# Altium footprint library czc.PcbLib: 157 footprints (part 7 of 10)
Each footprint in its own frame and in the unit in brackets; x right, y up, seen from the top. Pads: shape width x height; smd on the part's side, far side on the other; paste and mask are expansions set on the pad; w line width, h text height; cw(c..) or ccw(c..) is an arc to the next point about the centre after c.
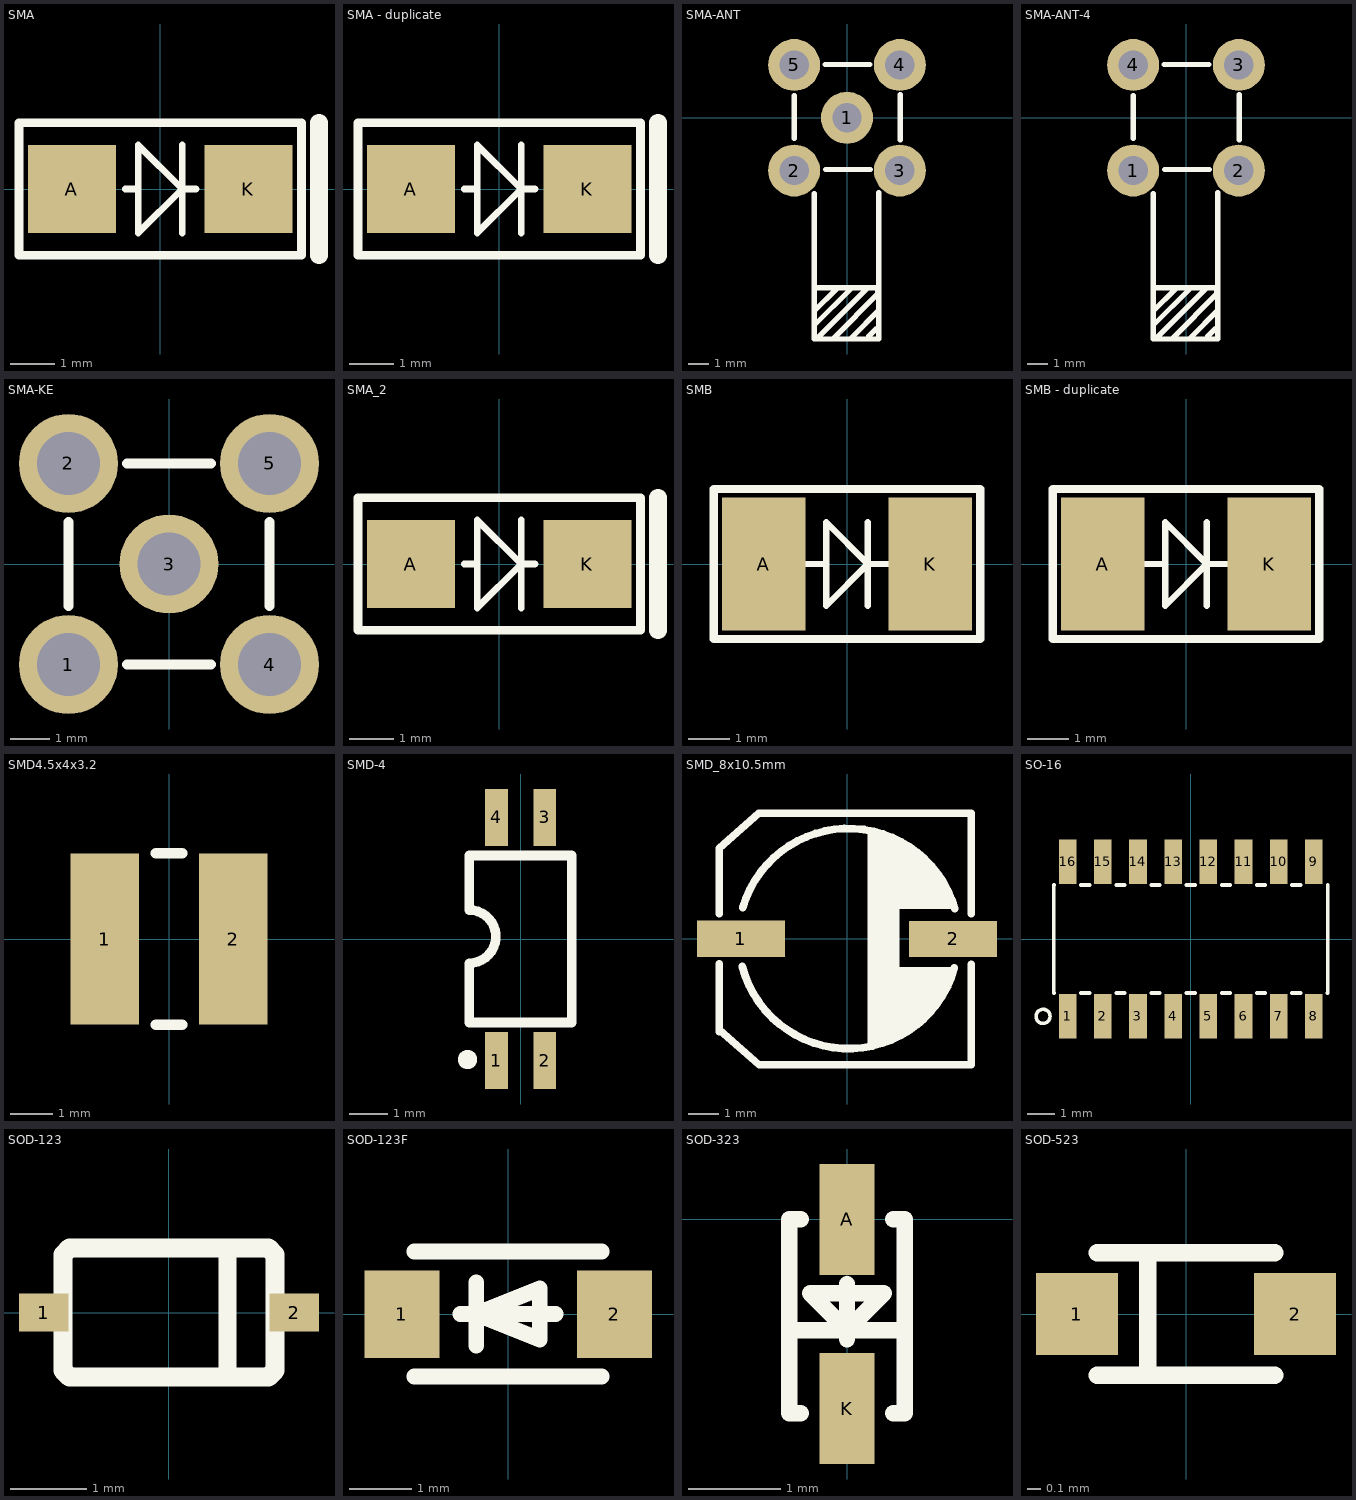
[diagram p6: the footprints below, top view; thin cyan lines are the x and y axes]

## SMA [mm]
pads (2):
  rect 2x2 smd: A(-2,0) K(2,0)
Top Overlay:
  lines w0.15: -0.787,0 -0.5,0 ; 0.5,-1 0.5,1 ; 0.813,0 0.5,0 ; 0.5,0 -0.5,1 -0.5,-1 0.5,0
  lines w0.2: -3.2,-1.5 -3.2,1.5 3.2,1.5 3.2,-1.5 -3.2,-1.5
  lines w0.4: 3.6,-1.5 3.6,1.5

## SMA - duplicate [mm]
pads (2):
  rect 2x2 smd: A(-2,0) K(2,0)
Top Overlay:
  lines w0.15: -0.787,0 -0.5,0 ; 0.5,-1 0.5,1 ; 0.813,0 0.5,0 ; 0.5,0 -0.5,1 -0.5,-1 0.5,0
  lines w0.2: -3.2,-1.5 -3.2,1.5 3.2,1.5 3.2,-1.5 -3.2,-1.5
  lines w0.4: 3.6,-1.5 3.6,1.5

## SMA-ANT [mm]
pads (5):
  round 2.5 hole 1.4: 1(0,0) 2(-2.54,-2.54) 3(2.54,-2.54) 4(2.54,2.54) 5(-2.54,2.54)
Top Overlay:
  lines w0.254: -2.54,-0.991 -2.54,1.067 ; -1.575,-9.982 0.178,-8.23 ; -1.575,-3.658 -1.575,-10.643 1.524,-10.643 1.524,-3.607 ; -1.549,-9.271 -0.508,-8.23 -0.508,-8.204 ; -1.473,-8.179 1.448,-8.179 1.473,-8.204 1.473,-8.484 -0.61,-10.566 ; -1.346,-10.516 0.94,-8.23 ; -1.041,2.565 1.092,2.565 ; -1.016,-2.489 1.118,-2.489 ; -0.584,-8.255 -0.559,-8.255 ; 0.229,-10.566 1.524,-9.271 ; 1.041,-10.516 1.422,-10.135 1.499,-10.135 ; 2.565,-1.067 2.565,1.118

## SMA-ANT-4 [mm]
pads (4):
  round 2.5 hole 1.4: 1(-2.54,-2.54) 2(2.54,-2.54) 3(2.54,2.54) 4(-2.54,2.54)
Top Overlay:
  lines w0.254: -2.54,-0.991 -2.54,1.067 ; -1.575,-9.982 0.178,-8.23 ; -1.575,-3.658 -1.575,-10.643 1.524,-10.643 1.524,-3.607 ; -1.549,-9.271 -0.508,-8.23 -0.508,-8.204 ; -1.473,-8.179 1.448,-8.179 1.473,-8.204 1.473,-8.484 -0.61,-10.566 ; -1.346,-10.516 0.94,-8.23 ; -1.041,2.565 1.092,2.565 ; -1.016,-2.489 1.118,-2.489 ; -0.584,-8.255 -0.559,-8.255 ; 0.229,-10.566 1.524,-9.271 ; 1.041,-10.516 1.422,-10.135 1.499,-10.135 ; 2.565,-1.067 2.565,1.118

## SMA-KE [mm]
pads (5):
  round 2.5 hole 1.6: 1(-2.54,-2.54) 2(-2.54,2.54) 3(0,0) 4(2.54,-2.54) 5(2.54,2.54)
Top Overlay:
  lines w0.254: -2.54,-1.059 -2.54,1.059 ; -1.059,-2.54 1.059,-2.54 ; -1.059,2.54 1.059,2.54 ; 2.54,-1.059 2.54,1.059

## SMA_2 [mm]
pads (2):
  rect 2x2 smd: A(-2,0) K(2,0)
Top Overlay:
  lines w0.15: -0.787,0 -0.5,0 ; 0.5,-1 0.5,1 ; 0.813,0 0.5,0 ; 0.5,0 -0.5,-1 -0.5,1 0.5,0
  lines w0.2: -3.2,-1.5 3.2,-1.5 3.2,1.5 -3.2,1.5 -3.2,-1.5
  lines w0.4: 3.6,-1.5 3.6,1.5

## SMB [mm]
pads (2):
  rect 2x3.2 smd: A(-2,0) K(2,0)
Top Overlay:
  lines w0.15: -1,0 -0.5,0 ; 0.5,-1 0.5,1 ; 1,0 0.5,0 ; 0.5,0 -0.5,-1 -0.5,1 0.5,0
  lines w0.2: -3.2,-1.8 -3.2,1.8 3.2,1.8 3.2,-1.8 -3.2,-1.8
3D body "DO-214AA.STEP": height 2.5, standoff 0, extent -2.8,-1.995 2.8,1.905

## SMB - duplicate [mm]
pads (2):
  rect 2x3.2 smd: A(-2,0) K(2,0)
Top Overlay:
  lines w0.15: -1,0 -0.5,0 ; 0.5,-1 0.5,1 ; 1,0 0.5,0 ; 0.5,0 -0.5,-1 -0.5,1 0.5,0
  lines w0.2: -3.2,-1.8 -3.2,1.8 3.2,1.8 3.2,-1.8 -3.2,-1.8
3D body "DO-214AA.STEP": height 2.5, standoff 0, extent -2.8,-1.995 2.8,1.905

## SMD4.5x4x3.2 [mm]
pads (2):
  rect 1.6x4 smd: 1(-1.5,0) 2(1.5,0)
Top Overlay:
  lines w0.254: -0.3,-2 0.3,-2 ; -0.3,2 0.3,2

## SMD-4 [mm]
pads (4):
  rect 0.6x1.5 smd: 1(-0.635,-3.2) 2(0.635,-3.2) 3(0.635,3.2) 4(-0.635,3.2)
Top Overlay:
  circle w0.254: c-1.397,-3.175 r0.127
  lines w0.254: -1.35,-0.635 -1.35,-2.2 1.35,-2.2 1.35,2.2 -1.35,2.2 -1.35,0.762 cw(c-1.349,0.064) -1.349,-0.635

## SMD_8x10.5mm [mm]
pads (2):
  rect 2.901x1.199 smd: 1(-3.5,0.005) 2(3.5,-0.005)
Top Overlay:
  region: 0.686,3.607 0.686,-3.581 1.219,-3.378 1.6,-3.226 1.981,-3.048 2.311,-2.819 2.692,-2.489 2.921,-2.184 3.175,-1.854 3.277,-1.6 3.454,-1.194 3.531,-0.94 1.727,-0.94 1.727,0.991 3.531,0.991 3.251,1.626 2.997,2.235 2.616,2.565 2.235,2.921 1.854,3.124 1.372,3.378 1.092,3.48 0.686,3.683
  lines w0.254: -4.211,-3.068 -4.211,-0.826 ; -4.211,-3.015 -2.901,-4.155 4.1,-4.155 4.1,-0.836 ; -4.211,0.836 -4.211,2.995 -2.911,4.145 ; -3.454,-0.914 ccw(c0.051,0) 3.544,-0.958 ; -3.442,1.035 cw(c0.051,0) 3.556,0.991 ; -2.901,4.145 4.1,4.145 4.1,0.826

## SO-16 [mm]
pads (16):
  rect 0.635x1.6 smd: 1(-4.445,-2.794) 2(-3.175,-2.794) 3(-1.905,-2.794) 4(-0.635,-2.794) 5(0.635,-2.794) 6(1.905,-2.794) 7(3.175,-2.794) 8(4.445,-2.794) 9(4.445,2.794) 10(3.175,2.794) 11(1.905,2.794) 12(0.635,2.794) 13(-0.635,2.794) 14(-1.905,2.794) 15(-3.175,2.794) 16(-4.445,2.794)
Top Overlay:
  circle w0.127: c-5.334,-2.794 r0.254
  lines w0.127: -4.924,-1.95 -4.95,-1.95 -4.95,1.95 -4.924,1.95 ; -3.966,-1.95 -3.654,-1.95 ; -3.966,1.95 -3.654,1.95 ; -2.696,-1.95 -2.384,-1.95 ; -2.696,1.95 -2.384,1.95 ; -1.426,-1.95 -1.114,-1.95 ; -1.426,1.95 -1.114,1.95 ; -0.156,-1.95 0.156,-1.95 ; -0.156,1.95 0.156,1.95 ; 1.114,-1.95 1.426,-1.95 ; 1.114,1.95 1.426,1.95 ; 2.384,-1.95 2.696,-1.95 ; 2.384,1.95 2.696,1.95 ; 3.654,-1.95 3.966,-1.95 ; 3.654,1.95 3.966,1.95 ; 4.924,-1.95 4.95,-1.95 4.95,1.95

## SOD-123 [mm]
pads (2):
  rect 0.65x0.5 smd mask+0.102: 1(-1.65,0) 2(1.65,0)
Top Overlay:
  rectangle: 0.654,-0.889 0.889,0.85
  lines w0.254: -0.762,-0.85 0,-0.85 ; 0,0.85 0.762,0.85 1.309,0.85 ; 0,0.85 -1.309,0.85 -1.397,0.762 -1.397,-0.762 -1.309,-0.85 1.309,-0.85 1.397,-0.762 1.397,0.762 1.309,0.85 ; 0,0.85 1.309,0.85
3D body "SOD-123.STEP": height 1.2, standoff 0, extent -1.85,-0.8 1.85,0.8

## SOD-123F [mm]
pads (2):
  rect 1.2x1.4 smd: 1(-1.7,0) 2(1.7,0)
Top Overlay:
  lines w0.254: -1.5,-1 1.5,-1 ; -1.5,1 1.5,1 ; -0.762,0 0.762,0 ; -0.508,-0.508 -0.508,0.508 ; -0.508,0 0.508,0.406 0.508,-0.406 -0.508,0

## SOD-323 [mm]
pads (2):
  rect 0.6x1.2 smd: A(0,0) K(0,-2.05)
Top Overlay:
  lines w0.178: -0.6,-1.2 0.625,-1.2 ; -0.5,-2.1 -0.625,-2.1 -0.625,0 -0.5,0 ; 0,-1.3 0,-0.7 ; 0.5,-2.1 0.625,-2.1 0.625,0 0.5,0 ; -0.4,-0.8 0,-1.2 0.4,-0.8 -0.4,-0.8
3D body "SOD-323.STEP": height 1, standoff 0, extent -0.65,-2.316 0.65,0.284

## SOD-523 [mm]
pads (2):
  rect 0.6x0.6 smd: 1(-0.8,0) 2(0.8,0)
Top Overlay:
  lines w0.13: -0.65,-0.45 0.65,-0.45 ; -0.65,0.45 0.65,0.45 ; -0.28,-0.43 -0.28,0.42